# EAGLE library part LCD (library LCD)
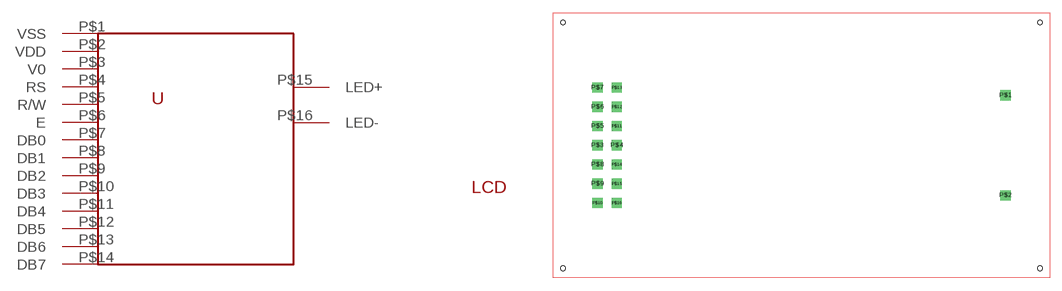
[diagram p0: symbol with the pads of NHD; footprint NHD]

Designator prefix -

## LCD  [NHD]
P$1  VSS
P$2  VDD
P$3  V0
P$4  RS
P$5  R/W
P$6  E
P$7  DB0
P$8  DB1
P$9  DB2
P$10  DB3
P$11  DB4
P$12  DB5
P$13  DB6
P$14  DB7
P$15  LED+
P$16  LED-

## Footprint NHD (pad centres in mm)
drill 0.8 square: P$1 26.5,6.5; P$2 26.5,-6.5; P$3 -26.5,0; P$4 -24,0; P$5 -26.5,2.5; P$6 -26.5,5; P$7 -26.5,7.5; P$8 -26.5,-2.5; P$9 -26.5,-5; P$10 -26.5,-7.5; P$11 -24,2.5; P$12 -24,5; P$13 -24,7.5; P$14 -24,-2.5; P$15 -24,-5; P$16 -24,-7.5
hole 0.6 at -31,-16
hole 0.6 at -31,16
hole 0.6 at 31,16
hole 0.6 at 31,-16